# EAGLE library part DIL8 (library ic-package_modified)
Dual In Line / Socket
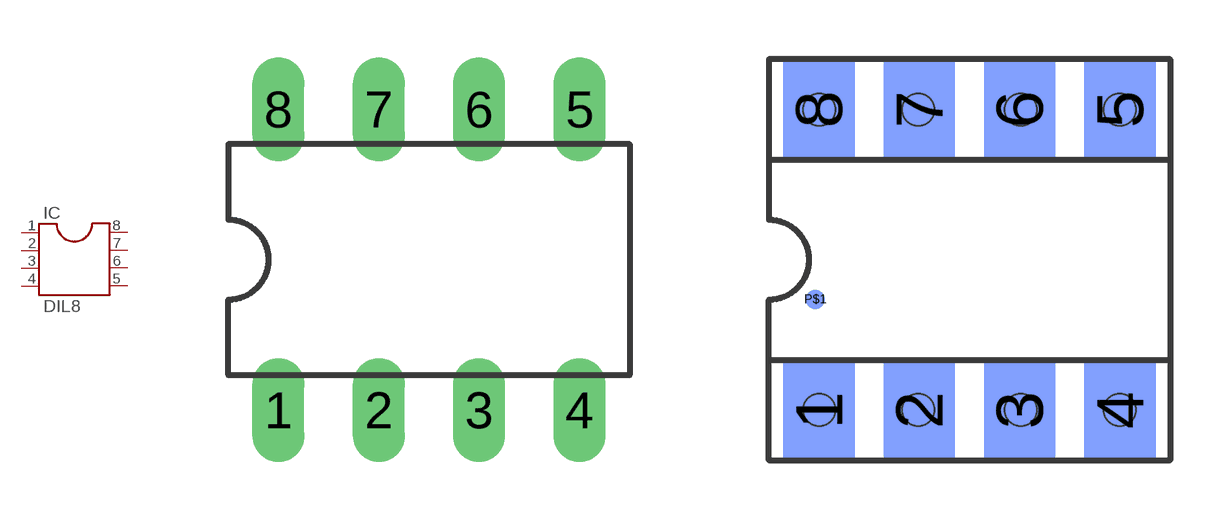
[diagram p1: symbol with the pads of DIL08; footprints DIL08, SOCKET-08]

Designator prefix IC

## DIL8  [DIL08]
1  1  pas
2  2  pas
3  3  pas
4  4  pas
5  5  pas
6  6  pas
7  7  pas
8  8  pas

## DIL8S  [SOCKET-08]
Pads as for DIL08

## DIL8SOCKET-08-MODIFIED  [SOCKET-08]
Pads as for DIL08

## Footprint DIL08 (pad centres in mm)
Dual In Line Package
drill 0.813 long: 1 -3.81,-3.81; 2 -1.27,-3.81; 3 1.27,-3.81; 4 3.81,-3.81; 5 3.81,3.81; 6 1.27,3.81; 7 -1.27,3.81; 8 -3.81,3.81

## Footprint SOCKET-08 (pad centres in mm)
Dual In Line Socket
smd 1.8 x 2.5 bottom: 1 -3.81,-3.81; 2 -1.27,-3.81; 3 1.27,-3.81; 4 3.81,-3.81; 5 3.81,3.81; 6 1.27,3.81; 7 -1.27,3.81; 8 -3.81,3.81
smd 0.5 x 0.5 bottom: P$1 -3.9,-1
hole 0.813 at -3.8,-3.8
hole 0.813 at -1.3,-3.8
hole 0.813 at 1.3,-3.8
hole 0.813 at 3.8,-3.8
hole 0.813 at 3.8,3.8
hole 0.813 at 1.3,3.8
hole 0.813 at -1.3,3.8
hole 0.813 at -3.8,3.8